# EAGLE library part 74*125 (library Jordi)
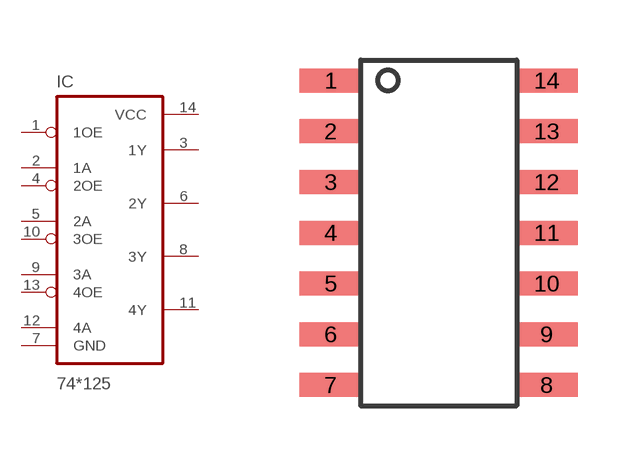
[diagram p14: symbol with the pads of SOIC-14; footprint SOIC-14]

Designator prefix IC

## 74125SOIC  [SOIC-14]
1  1OE  in
2  1A  in
3  1Y  hiz
4  2OE  in
5  2A  in
6  2Y  hiz
7  GND  pwr
8  3Y  hiz
9  3A  in
10  3OE  in
11  4Y  hiz
12  4A  in
13  4OE  in
14  VCC  pwr

## Footprint SOIC-14 (pad centres in mm)
smd 1.55 x 0.6: 1 -2.7,3.81; 2 -2.7,2.54; 3 -2.7,1.27; 4 -2.7,0; 5 -2.7,-1.27; 6 -2.7,-2.54; 7 -2.7,-3.81; 8 2.7,-3.81; 9 2.7,-2.54; 10 2.7,-1.27; 11 2.7,0; 12 2.7,1.27; 13 2.7,2.54; 14 2.7,3.81